# EAGLE library part RKJXK122000D (library RKJXK122000D)
Miniature potentiomeric joystick Joystick Switch Through Hole, -10 ??? +70degC Source: Datasheet <http://www.alps.com/products/WebObjects/catalog.woa/E/HTML/MultiControl/Potentiometer/RKJXK/RKJXK122000D.html.pdf>
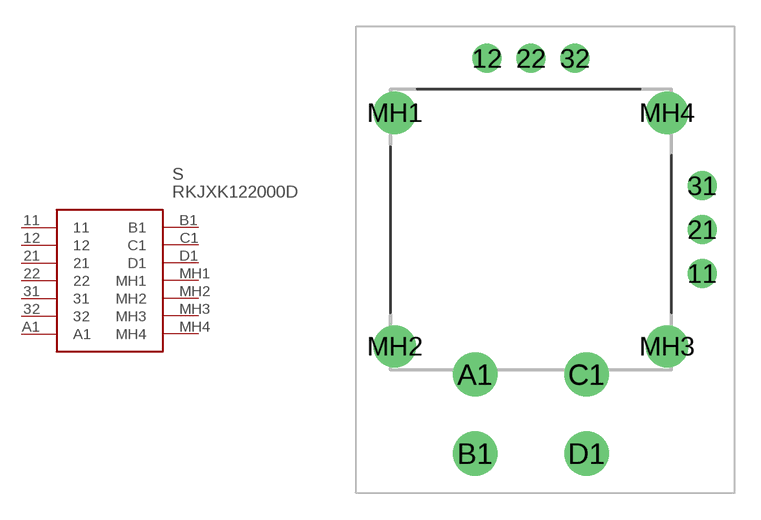
[diagram p0: symbol with the pads of RKJXK122000D; footprint RKJXK122000D]

Designator prefix S

## RKJXK122000D (Description: Miniature potentiomeric joystick Joystick Switch Through Hole, -10 ??? +70degC; Height: 19.7mm; Manufacturer_Name: ALPS; Manufacturer_Part_Number: RKJXK122000D; Mouser_Part_Number: 688-RKJXK122000D; Mouser_Price-Stock: https://www.mouser.co.uk/ProductDetail/ALPS/RKJXK122000D?qs=m0BA540hBPe588JnPdeybQ%3D%3D)  [RKJXK122000D]
11  11
12  12
21  21
22  22
31  31
32  32
A1  A1
B1  B1
C1  C1
D1  D1
MH1  MH1
MH2  MH2
MH3  MH3
MH4  MH4

## Footprint RKJXK122000D (pad centres in mm)
RKJXK122000D-2
drill 1.1 pad 1.65: 11 0,0; 12 -12.25,12.25; 21 0,2.5; 22 -9.75,12.25; 31 0,5; 32 -7.25,12.25
drill 1.68 pad 2.52: A1 -12.925,-5.75; B1 -12.925,-10.25; C1 -6.575,-5.75; D1 -6.575,-10.25
drill 1.6 pad 2.4: MH1 -17.5,9.15; MH2 -17.5,-4.15; MH3 -2,-4.15; MH4 -2,9.15